# Altium schematic symbol library USBCConnector.SchLib: 1 symbol
Pins are listed as number, name and electrical type; pins without a type are passive.

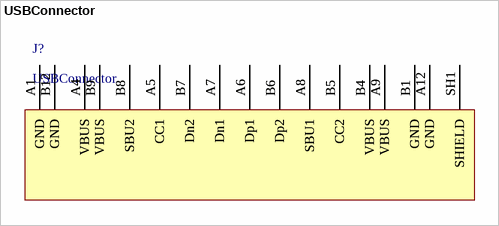
[diagram p0: symbol USBConnector]

## USBConnector
designator J?
footprint USBC; pin to pad A1>A1_B12 A4>A4_B9 A9>B4_A9 A12>B1_A12 B1>B1_A12 B4>B4_A9 B9>A4_B9 B12>A1_B12
pins: A1 GND (power), A1 GND (power), A4 VBUS, A4 VBUS, A5 CC1, A5 CC1, A6 Dp1, A6 Dp1, A7 Dn1, A7 Dn1, A8 SBU1, A8 SBU1, A9 VBUS, A9 VBUS, A12 GND (power), A12 GND (power), B1 GND (power), B1 GND (power), B4 VBUS, B4 VBUS, B5 CC2, B5 CC2, B6 Dp2, B6 Dp2, B7 Dn2, B7 Dn2, B8 SBU2, B8 SBU2, B9 VBUS, B9 VBUS, B12 GND, B12 GND, SH1 SHIELD (power), SH1 SHIELD (power)